# Altium integrated library Analog Devices Data Converters Analog-to-Digital Converters.IntLib: 2400 symbols (part 209 of 338)
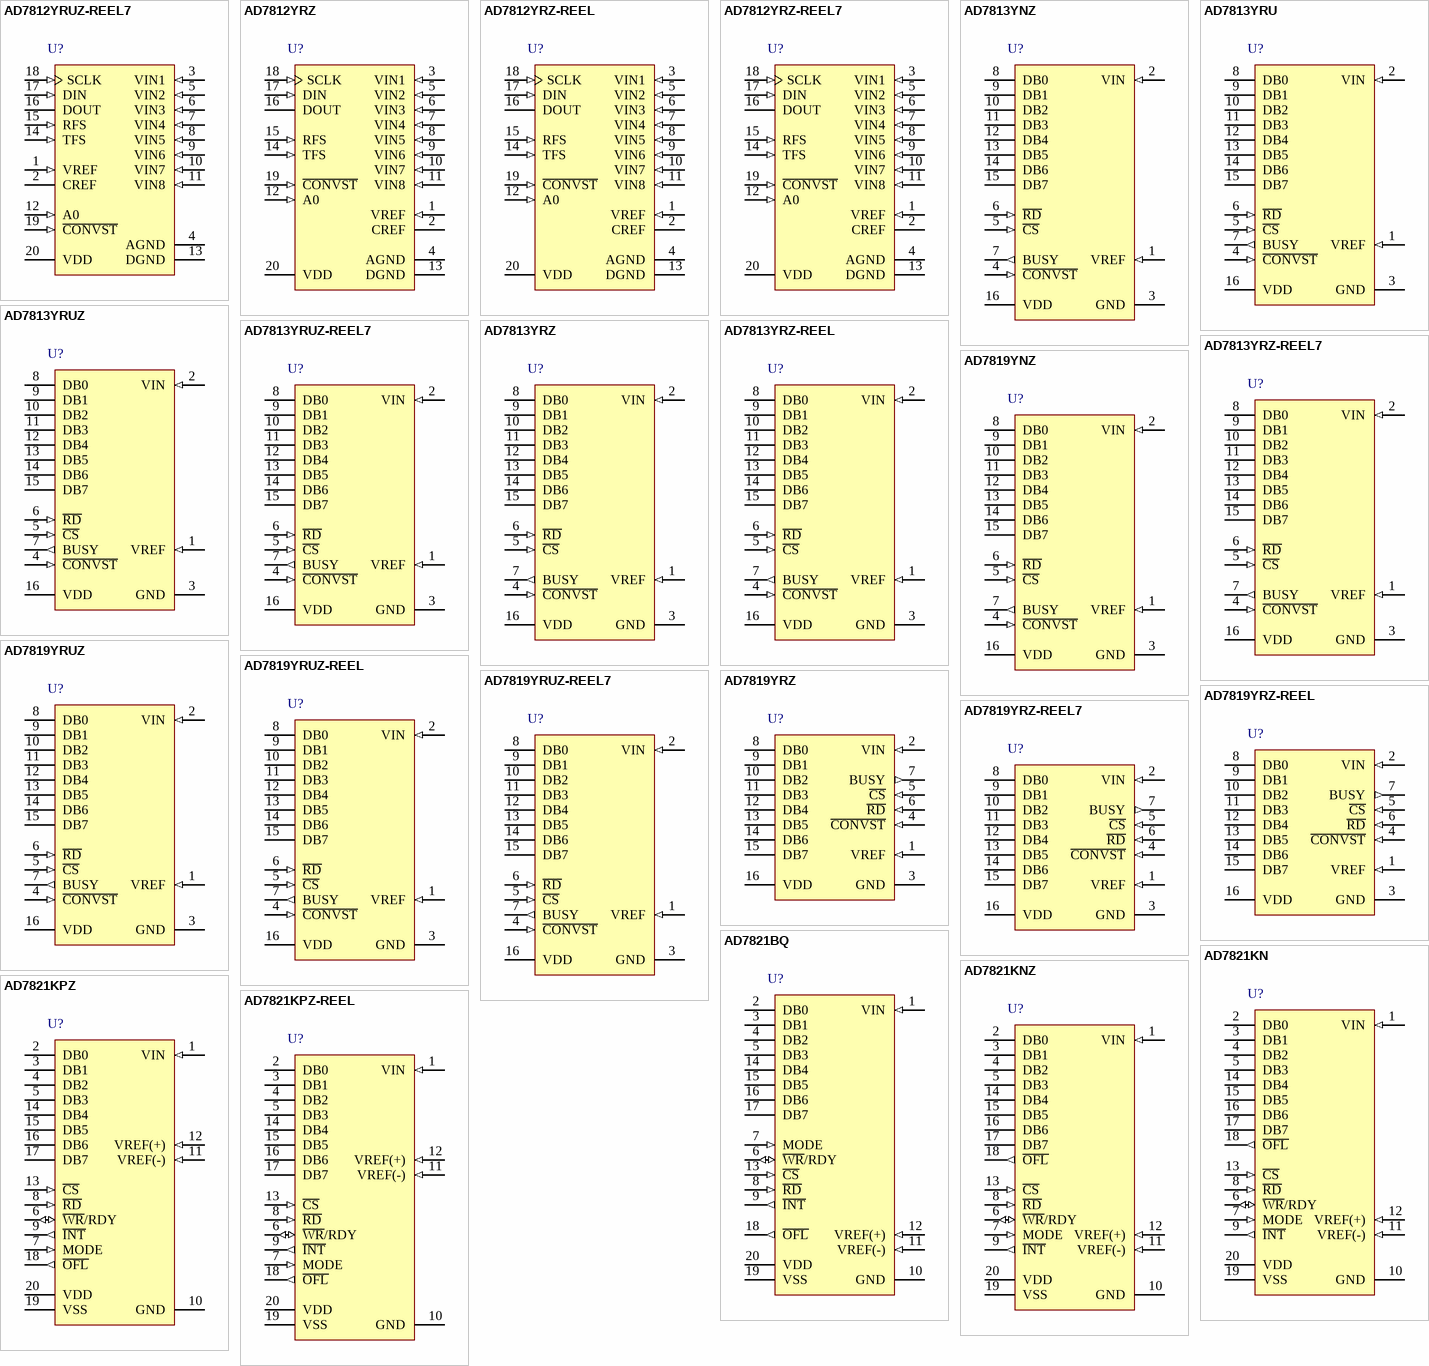
[diagram p270: symbols AD7812YRUZ-REEL7 to AD7821KPZ-REEL]

## AD7821KN
designator U?
Single 8-Bit uP Compatible Analog-to-Digital Converter with Parallel Interface and Track / Hold, LC2MOS, 1MSPS, 0 to +70 degC, N-20, Tube; Part Number: AD7821; Manufacturer: Analog Devices; Resolution (Bits): 8; Channels: 1; Throughput Rate (SPS): 1M; Interface: Par; DatasheetVersion: Rev.B; PackageVersion: 070706-A; PackageReference: N-20; PackageDescription: 20-Lead Plastic Dual In-Line Package [PDIP] Narrow Body; RoHS: N; Packing: Tube; Mounting Technology: Through-hole; Code_JEDEC: MS-001; ComponentLink1Description: Manufacturer URL; ComponentLink1URL: http://www.analog.com/en/index.html; ComponentLink2Description: Datasheet; ComponentLink2URL: http://www.analog.com/static/imported-files/data_sheets/AD7821.pdf; ComponentLink3Description: Package Specification; ComponentLink3URL: http://www.analog.com/static/imported-files/packages/50601349676519N_20.pdf; ComponentLink4Description: Product URL; ComponentLink4URL: http://www.analog.com/en/analog-to-digital-converters/ad-converters/ad7821/products/product.html
footprint N-20 (DIP, 20-Leads, Row Spacing 7.62mm, Pitch 2.54mm, Body 25.9x6.6mm)
pins: 1 VIN (in) "Analog Input: Range VREF(-) =< VIN =< VREF(+)", 2 DB0 (hiz) "Three-State Data Output (LSB)", 3 DB1 (hiz) "Three-State Data Outputs", 4 DB2 (hiz) "Three-State Data Outputs", 5 DB3 (hiz) "Three-State Data Outputs", 6 ~{WR}/RDY (io) "WRITE control input/READY status output. See Digital Interface section.", 7 MODE (in) "Mode Selection Input. It determines whether the device operates in the WR-RD or RD mode. This input is internally pulled low through a 50 μA current source. See Digital Interface section.", 8 ~{RD} (in) "READ Input. R\D\ must be low to access data from the part. See Digital Interface section.", 9 ~{INT} (out) "INTERRUPT Output. I\N\T\ going low indicates that the conversion is complete. I\N\T\ returns high on the rising edge of C\S\ or R\D\. See Digital Interface section.", 10 GND (power) "Ground", 11 VREF(-) (in) "Lower limit of reference span. Range: VSS =< VREF(-) =< VREF(+).", 12 VREF(+) (in) "Upper limit of reference span. Range: VREF(-) < VREF(+) =< VDD.", 13 ~{CS} (in) "Chip Select Input. The device is selected when this input is low.", 14 DB4 (hiz) "Three-State Data Outputs", 15 DB5 (hiz) "Three-State Data Outputs", 16 DB6 (hiz) "Three-State Data Outputs", 17 DB7 (hiz) "Three-State Data Output (MSB)", 18 ~{OFL} (out) "Overflow Output. If the analog input is higher than (VREF(+) - 1/2 LSB), O\F\L\ will be low at the end of conversion. It is a non-three-state output which can be used to cascade two or more devices to increase resolution.", 19 VSS (power) "Negative Supply Voltage VSS = 0 V; Unipolar Operation VSS = -5 V; Bipolar Operation", 20 VDD (power) "Positive Supply Voltage, +5 V"

## AD7821KNZ
designator U?
Single 8-Bit uP Compatible Analog-to-Digital Converter with Parallel Interface and Track / Hold, LC2MOS, 1MSPS, 0 to +70 degC, N-20, Pb-Free, Tube; Part Number: AD7821; Manufacturer: Analog Devices; Resolution (Bits): 8; Channels: 1; Throughput Rate (SPS): 1M; Interface: Par; DatasheetVersion: Rev.B; PackageVersion: 070706-A; PackageReference: N-20; PackageDescription: 20-Lead Plastic Dual In-Line Package [PDIP] Narrow Body; RoHS: Y; Packing: Tube; Mounting Technology: Through-hole; Code_JEDEC: MS-001; ComponentLink1Description: Manufacturer URL; ComponentLink1URL: http://www.analog.com/en/index.html; ComponentLink2Description: Datasheet; ComponentLink2URL: http://www.analog.com/static/imported-files/data_sheets/AD7821.pdf; ComponentLink3Description: Package Specification; ComponentLink3URL: http://www.analog.com/static/imported-files/packages/50601349676519N_20.pdf; ComponentLink4Description: Product URL; ComponentLink4URL: http://www.analog.com/en/analog-to-digital-converters/ad-converters/ad7821/products/product.html
footprint N-20 (DIP, 20-Leads, Row Spacing 7.62mm, Pitch 2.54mm, Body 25.9x6.6mm)
pins: 1 VIN (in) "Analog Input: Range VREF(-) =< VIN =< VREF(+)", 2 DB0 (hiz) "Three-State Data Output (LSB)", 3 DB1 (hiz) "Three-State Data Outputs", 4 DB2 (hiz) "Three-State Data Outputs", 5 DB3 (hiz) "Three-State Data Outputs", 6 ~{WR}/RDY (io) "WRITE control input/READY status output. See Digital Interface section.", 7 MODE (in) "Mode Selection Input. It determines whether the device operates in the WR-RD or RD mode. This input is internally pulled low through a 50 μA current source. See Digital Interface section.", 8 ~{RD} (in) "READ Input. R\D\ must be low to access data from the part. See Digital Interface section.", 9 ~{INT} (out) "INTERRUPT Output. I\N\T\ going low indicates that the conversion is complete. I\N\T\ returns high on the rising edge of C\S\ or R\D\. See Digital Interface section.", 10 GND (power) "Ground", 11 VREF(-) (in) "Lower limit of reference span. Range: VSS =< VREF(-) =< VREF(+).", 12 VREF(+) (in) "Upper limit of reference span. Range: VREF(-) < VREF(+) =< VDD.", 13 ~{CS} (in) "Chip Select Input. The device is selected when this input is low.", 14 DB4 (hiz) "Three-State Data Outputs", 15 DB5 (hiz) "Three-State Data Outputs", 16 DB6 (hiz) "Three-State Data Outputs", 17 DB7 (hiz) "Three-State Data Output (MSB)", 18 ~{OFL} (out) "Overflow Output. If the analog input is higher than (VREF(+) - 1/2 LSB), O\F\L\ will be low at the end of conversion. It is a non-three-state output which can be used to cascade two or more devices to increase resolution.", 19 VSS (power) "Negative Supply Voltage VSS = 0 V; Unipolar Operation VSS = -5 V; Bipolar Operation", 20 VDD (power) "Positive Supply Voltage, +5 V"

## AD7821KPZ
designator U?
Single 8-Bit uP Compatible Analog-to-Digital Converter with Parallel Interface and Track / Hold, LC2MOS, 1MSPS, 0 to +70 degC, P-20A, Pb-Free, Tube; Part Number: AD7821; Manufacturer: Analog Devices; Resolution (Bits): 8; Channels: 1; Throughput Rate (SPS): 1M; Interface: Par; DatasheetVersion: Rev.B; PackageVersion: Nov-2002; PackageReference: P-20A; PackageDescription: 20-Lead Plastic Leaded Chip Carrier [PLCC]; RoHS: Y; Packing: Tube; Mounting Technology: Surface Mount; Code_JEDEC: MO-047-AA; ComponentLink1Description: Manufacturer URL; ComponentLink1URL: http://www.analog.com/en/index.html; ComponentLink2Description: Datasheet; ComponentLink2URL: http://www.analog.com/static/imported-files/data_sheets/AD7821.pdf; ComponentLink3Description: Package Specification; ComponentLink3URL: http://www.analog.com/static/imported-files/packages/3121431516544404277643669223804694P20A.pdf; ComponentLink4Description: Product URL; ComponentLink4URL: http://www.analog.com/en/analog-to-digital-converters/ad-converters/ad7821/products/product.html
footprint P-20A_N (Leaded Chip Carrier, 20-Leads, Body 9x9mm, Pitch 1.27mm, IPC Medium Density)
footprint P-20A_L (Leaded Chip Carrier, 20-Leads, Body 9x9mm, Pitch 1.27mm, IPC High Density)
footprint P-20A_M (Leaded Chip Carrier, 20-Leads, Body 9x9mm, Pitch 1.27mm, IPC Low Density)
pins: 1 VIN (in) "Analog Input: Range VREF(-) =< VIN =< VREF(+)", 2 DB0 (hiz) "Three-State Data Output (LSB)", 3 DB1 (hiz) "Three-State Data Outputs", 4 DB2 (hiz) "Three-State Data Outputs", 5 DB3 (hiz) "Three-State Data Outputs", 6 ~{WR}/RDY (io) "WRITE control input/READY status output. See Digital Interface section.", 7 MODE (in) "Mode Selection Input. It determines whether the device operates in the WR-RD or RD mode. This input is internally pulled low through a 50 uA current source. See Digital Interface section.", 8 ~{RD} (in) "READ Input. R\D\ must be low to access data from the part. See Digital Interface section.", 9 ~{INT} (out) "INTERRUPT Output. I\N\T\ going low indicates that the conversion is complete. I\N\T\ returns high on the rising edge of C\S\ or R\D\. See Digital Interface section.", 10 GND (power) "Ground", 11 VREF(-) (in) "Lower limit of reference span. Range: VSS =< VREF(-) =< VREF(+).", 12 VREF(+) (in) "Upper limit of reference span. Range: VREF(-) < VREF(+) =< VDD.", 13 ~{CS} (in) "Chip Select Input. The device is selected when this input is low.", 14 DB4 (hiz) "Three-State Data Outputs", 15 DB5 (hiz) "Three-State Data Outputs", 16 DB6 (hiz) "Three-State Data Outputs", 17 DB7 (hiz) "Three-State Data Output (MSB)", 18 ~{OFL} (out) "Overflow Output. If the analog input is higher than (VREF(+) - 1/2 LSB), O\F\L\ will be low at the end of conversion. It is a non-three-state output which can be used to cascade two or more devices to increase resolution.", 19 VSS (power) "Negative Supply Voltage VSS = 0 V; Unipolar Operation VSS = -5 V; Bipolar Operation", 20 VDD (power) "Positive Supply Voltage, +5 V"

## AD7821KPZ-REEL
designator U?
Single 8-Bit uP Compatible Analog-to-Digital Converter with Parallel Interface and Track / Hold, LC2MOS, 1MSPS, 0 to +70 degC, P-20A, Pb-Free, Reel; Part Number: AD7821; Manufacturer: Analog Devices; Resolution (Bits): 8; Channels: 1; Throughput Rate (SPS): 1M; Interface: Par; DatasheetVersion: Rev.B; PackageVersion: Nov-2002; PackageReference: P-20A; PackageDescription: 20-Lead Plastic Leaded Chip Carrier [PLCC]; RoHS: Y; Packing: Reel; Mounting Technology: Surface Mount; Code_JEDEC: MO-047-AA; ComponentLink1Description: Manufacturer URL; ComponentLink1URL: http://www.analog.com/en/index.html; ComponentLink2Description: Datasheet; ComponentLink2URL: http://www.analog.com/static/imported-files/data_sheets/AD7821.pdf; ComponentLink3Description: Package Specification; ComponentLink3URL: http://www.analog.com/static/imported-files/packages/3121431516544404277643669223804694P20A.pdf; ComponentLink4Description: Product URL; ComponentLink4URL: http://www.analog.com/en/analog-to-digital-converters/ad-converters/ad7821/products/product.html
footprint P-20A_N (Leaded Chip Carrier, 20-Leads, Body 9x9mm, Pitch 1.27mm, IPC Medium Density)
footprint P-20A_L (Leaded Chip Carrier, 20-Leads, Body 9x9mm, Pitch 1.27mm, IPC High Density)
footprint P-20A_M (Leaded Chip Carrier, 20-Leads, Body 9x9mm, Pitch 1.27mm, IPC Low Density)
pins: 1 VIN (in) "Analog Input: Range VREF(-) =< VIN =< VREF(+)", 2 DB0 (hiz) "Three-State Data Output (LSB)", 3 DB1 (hiz) "Three-State Data Outputs", 4 DB2 (hiz) "Three-State Data Outputs", 5 DB3 (hiz) "Three-State Data Outputs", 6 ~{WR}/RDY (io) "WRITE control input/READY status output. See Digital Interface section.", 7 MODE (in) "Mode Selection Input. It determines whether the device operates in the WR-RD or RD mode. This input is internally pulled low through a 50 uA current source. See Digital Interface section.", 8 ~{RD} (in) "READ Input. R\D\ must be low to access data from the part. See Digital Interface section.", 9 ~{INT} (out) "INTERRUPT Output. I\N\T\ going low indicates that the conversion is complete. I\N\T\ returns high on the rising edge of C\S\ or R\D\. See Digital Interface section.", 10 GND (power) "Ground", 11 VREF(-) (in) "Lower limit of reference span. Range: VSS =< VREF(-) =< VREF(+).", 12 VREF(+) (in) "Upper limit of reference span. Range: VREF(-) < VREF(+) =< VDD.", 13 ~{CS} (in) "Chip Select Input. The device is selected when this input is low.", 14 DB4 (hiz) "Three-State Data Outputs", 15 DB5 (hiz) "Three-State Data Outputs", 16 DB6 (hiz) "Three-State Data Outputs", 17 DB7 (hiz) "Three-State Data Output (MSB)", 18 ~{OFL} (out) "Overflow Output. If the analog input is higher than (VREF(+) - 1/2 LSB), O\F\L\ will be low at the end of conversion. It is a non-three-state output which can be used to cascade two or more devices to increase resolution.", 19 VSS (power) "Negative Supply Voltage VSS = 0 V; Unipolar Operation VSS = -5 V; Bipolar Operation", 20 VDD (power) "Positive Supply Voltage, +5 V"

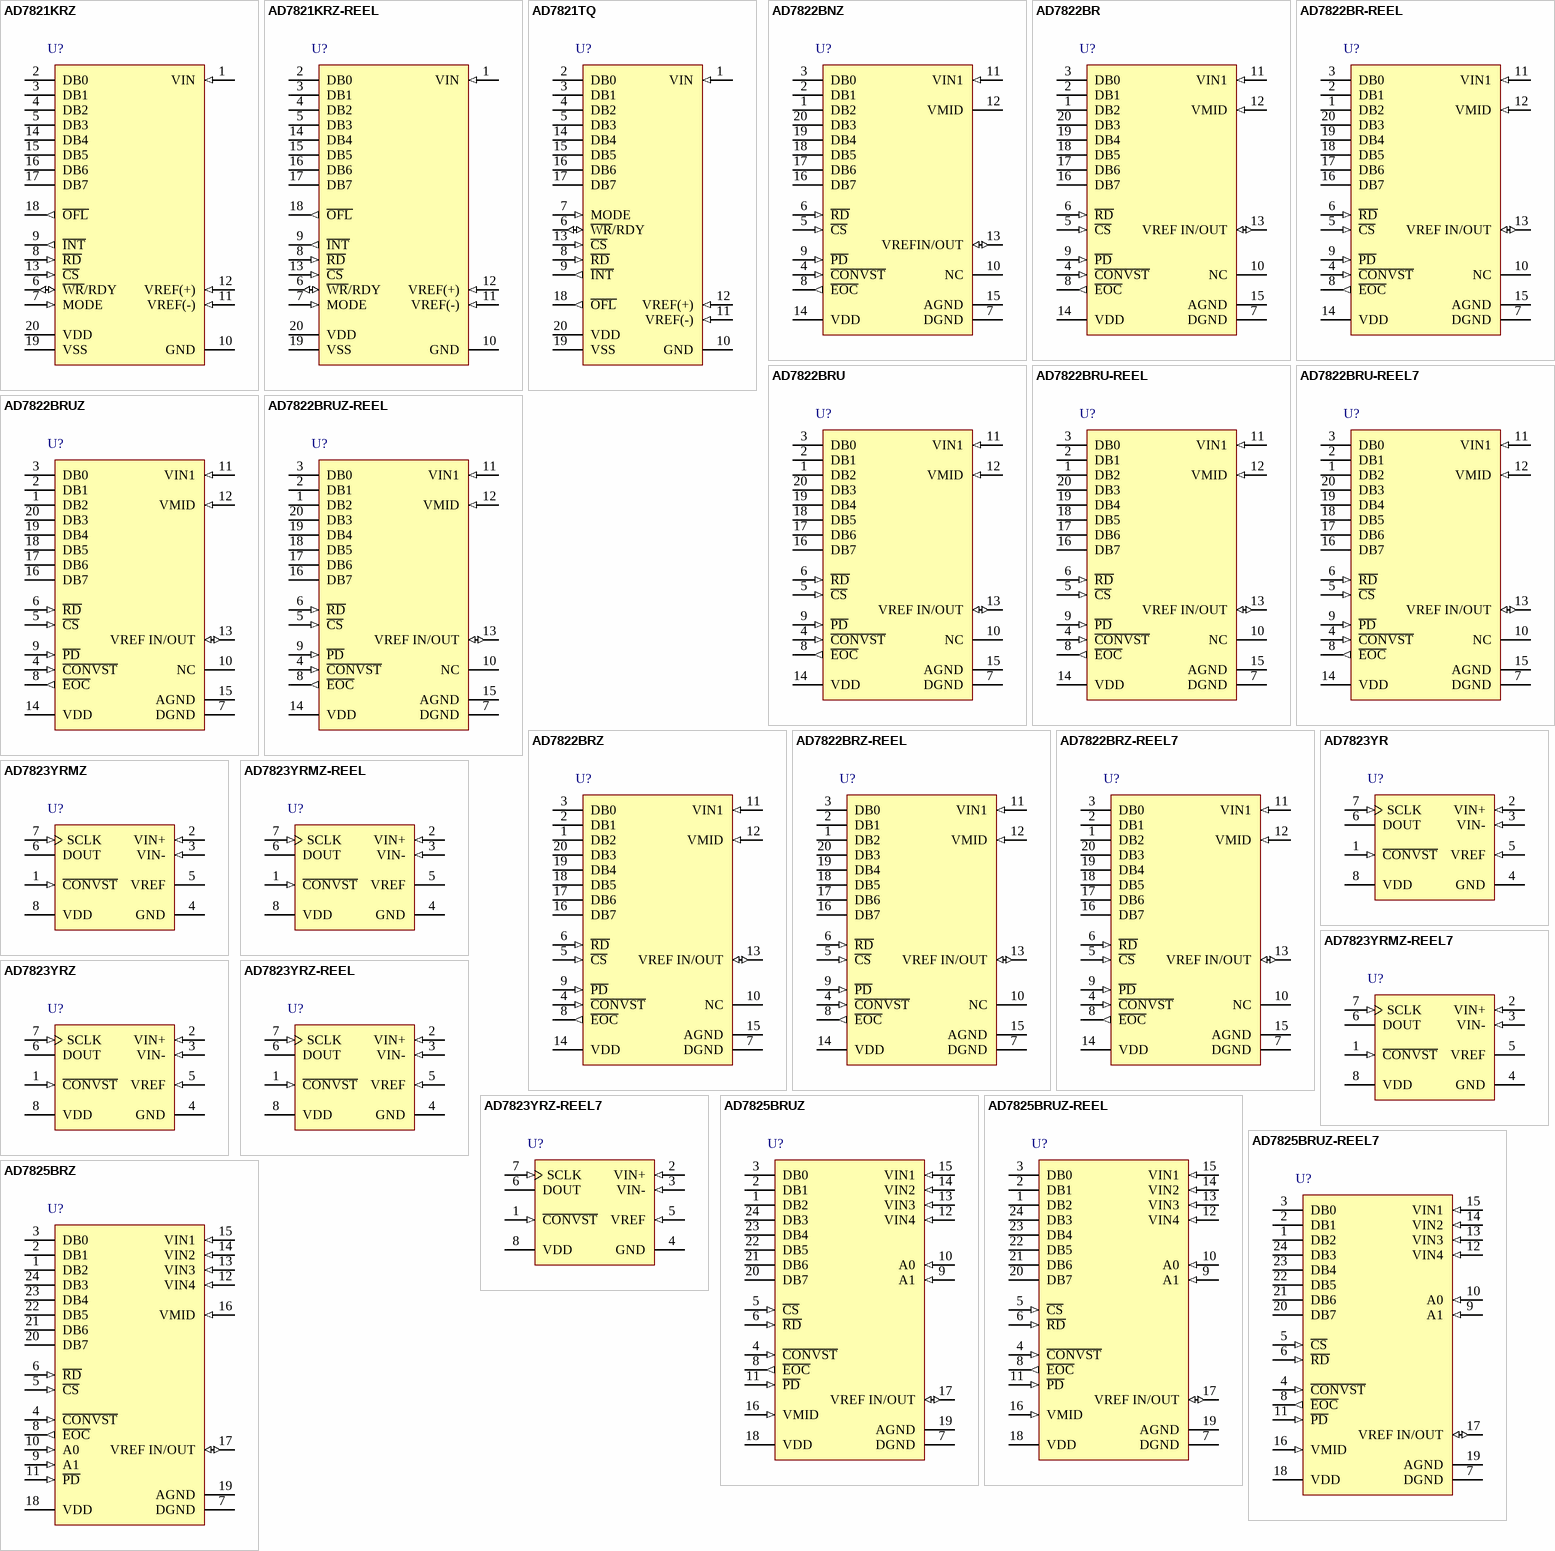
[diagram p65: symbols AD7821KRZ to AD7825BRZ]

## AD7821KRZ
designator U?
Single 8-Bit uP Compatible Analog-to-Digital Converter with Parallel Interface and Track / Hold, LC2MOS, 1MSPS, 0 to +70 degC, RW-20, Pb-Free, Tube; Part Number: AD7821; Manufacturer: Analog Devices; Resolution (Bits): 8; Channels: 1; Throughput Rate (SPS): 1M; Interface: Par; DatasheetVersion: Rev.B; PackageVersion: 060706-A; PackageReference: RW-20; PackageDescription: 20-Lead Standard Small Outline Package [SOIC_W] Wide Body; RoHS: Y; Packing: Tube; Mounting Technology: Surface Mount; Code_JEDEC: MS-013-AC; ComponentLink1Description: Manufacturer URL; ComponentLink1URL: http://www.analog.com/en/index.html; ComponentLink2Description: Datasheet; ComponentLink2URL: http://www.analog.com/static/imported-files/data_sheets/AD7821.pdf; ComponentLink3Description: Package Specification; ComponentLink3URL: http://www.analog.com/static/imported-files/packages/233848RW_20.pdf; ComponentLink4Description: Product URL; ComponentLink4URL: http://www.analog.com/en/analog-to-digital-converters/ad-converters/ad7821/products/product.html
footprint RW-20_N (SOIC, 20-Leads, Body 12.8x7.5mm, Pitch 1.27mm, IPC Medium Density)
footprint RW-20_L (SOIC, 20-Leads, Body 12.8x7.5mm, Pitch 1.27mm, IPC High Density)
footprint RW-20_M (SOIC, 20-Leads, Body 12.8x7.5mm, Pitch 1.27mm, IPC Low Density)
pins: 1 VIN (in) "Analog Input: Range VREF(-) =< VIN =< VREF(+)", 2 DB0 (hiz) "Three-State Data Output (LSB)", 3 DB1 (hiz) "Three-State Data Outputs", 4 DB2 (hiz) "Three-State Data Outputs", 5 DB3 (hiz) "Three-State Data Outputs", 6 ~{WR}/RDY (io) "WRITE control input/READY status output. See Digital Interface section.", 7 MODE (in) "Mode Selection Input. It determines whether the device operates in the WR-RD or RD mode. This input is internally pulled low through a 50 uA current source. See Digital Interface section.", 8 ~{RD} (in) "READ Input. R\D\ must be low to access data from the part. See Digital Interface section.", 9 ~{INT} (out) "INTERRUPT Output. I\N\T\ going low indicates that the conversion is complete. I\N\T\ returns high on the rising edge of C\S\ or R\D\. See Digital Interface section.", 10 GND (power) "Ground", 11 VREF(-) (in) "Lower limit of reference span. Range: VSS =< VREF(-) =< VREF(+).", 12 VREF(+) (in) "Upper limit of reference span. Range: VREF(-) < VREF(+) =< VDD.", 13 ~{CS} (in) "Chip Select Input. The device is selected when this input is low.", 14 DB4 (hiz) "Three-State Data Outputs", 15 DB5 (hiz) "Three-State Data Outputs", 16 DB6 (hiz) "Three-State Data Outputs", 17 DB7 (hiz) "Three-State Data Output (MSB)", 18 ~{OFL} (out) "Overflow Output. If the analog input is higher than (VREF(+) - 1/2 LSB), O\F\L\ will be low at the end of conversion. It is a non-three-state output which can be used to cascade two or more devices to increase resolution.", 19 VSS (power) "Negative Supply Voltage VSS = 0 V; Unipolar Operation VSS = -5 V; Bipolar Operation", 20 VDD (power) "Positive Supply Voltage, +5 V"

## AD7821KRZ-REEL
designator U?
Single 8-Bit uP Compatible Analog-to-Digital Converter with Parallel Interface and Track / Hold, LC2MOS, 1MSPS, 0 to +70 degC, RW-20, Pb-Free, Reel; Part Number: AD7821; Manufacturer: Analog Devices; Resolution (Bits): 8; Channels: 1; Throughput Rate (SPS): 1M; Interface: Par; DatasheetVersion: Rev.B; PackageVersion: 060706-A; PackageReference: RW-20; PackageDescription: 20-Lead Standard Small Outline Package [SOIC_W] Wide Body; RoHS: Y; Packing: Reel; Mounting Technology: Surface Mount; Code_JEDEC: MS-013-AC; ComponentLink1Description: Manufacturer URL; ComponentLink1URL: http://www.analog.com/en/index.html; ComponentLink2Description: Datasheet; ComponentLink2URL: http://www.analog.com/static/imported-files/data_sheets/AD7821.pdf; ComponentLink3Description: Package Specification; ComponentLink3URL: http://www.analog.com/static/imported-files/packages/233848RW_20.pdf; ComponentLink4Description: Product URL; ComponentLink4URL: http://www.analog.com/en/analog-to-digital-converters/ad-converters/ad7821/products/product.html
footprint RW-20_N (SOIC, 20-Leads, Body 12.8x7.5mm, Pitch 1.27mm, IPC Medium Density)
footprint RW-20_L (SOIC, 20-Leads, Body 12.8x7.5mm, Pitch 1.27mm, IPC High Density)
footprint RW-20_M (SOIC, 20-Leads, Body 12.8x7.5mm, Pitch 1.27mm, IPC Low Density)
pins: 1 VIN (in) "Analog Input: Range VREF(-) =< VIN =< VREF(+)", 2 DB0 (hiz) "Three-State Data Output (LSB)", 3 DB1 (hiz) "Three-State Data Outputs", 4 DB2 (hiz) "Three-State Data Outputs", 5 DB3 (hiz) "Three-State Data Outputs", 6 ~{WR}/RDY (io) "WRITE control input/READY status output. See Digital Interface section.", 7 MODE (in) "Mode Selection Input. It determines whether the device operates in the WR-RD or RD mode. This input is internally pulled low through a 50 uA current source. See Digital Interface section.", 8 ~{RD} (in) "READ Input. R\D\ must be low to access data from the part. See Digital Interface section.", 9 ~{INT} (out) "INTERRUPT Output. I\N\T\ going low indicates that the conversion is complete. I\N\T\ returns high on the rising edge of C\S\ or R\D\. See Digital Interface section.", 10 GND (power) "Ground", 11 VREF(-) (in) "Lower limit of reference span. Range: VSS =< VREF(-) =< VREF(+).", 12 VREF(+) (in) "Upper limit of reference span. Range: VREF(-) < VREF(+) =< VDD.", 13 ~{CS} (in) "Chip Select Input. The device is selected when this input is low.", 14 DB4 (hiz) "Three-State Data Outputs", 15 DB5 (hiz) "Three-State Data Outputs", 16 DB6 (hiz) "Three-State Data Outputs", 17 DB7 (hiz) "Three-State Data Output (MSB)", 18 ~{OFL} (out) "Overflow Output. If the analog input is higher than (VREF(+) - 1/2 LSB), O\F\L\ will be low at the end of conversion. It is a non-three-state output which can be used to cascade two or more devices to increase resolution.", 19 VSS (power) "Negative Supply Voltage VSS = 0 V; Unipolar Operation VSS = -5 V; Bipolar Operation", 20 VDD (power) "Positive Supply Voltage, +5 V"

## AD7821TQ
designator U?
Single 8-Bit uP Compatible Analog-to-Digital Converter with Parallel Interface and Track / Hold, LC2MOS, 1MSPS, -55 to +125 degC, Q-20, Tube; Part Number: AD7821; Manufacturer: Analog Devices; Resolution (Bits): 8; Channels: 1; Throughput Rate (SPS): 1M; Interface: Par; DatasheetVersion: Rev.B; PackageVersion: Dec-2004; PackageReference: Q-20; PackageDescription: 20-Lead Ceramic Dual In-Line Package [CERDIP]; RoHS: N; Packing: Tube; Mounting Technology: Through-hole; ComponentLink1Description: Manufacturer URL; ComponentLink1URL: http://www.analog.com/en/index.html; ComponentLink2Description: Datasheet; ComponentLink2URL: http://www.analog.com/static/imported-files/data_sheets/AD7821.pdf; ComponentLink3Description: Package Specification; ComponentLink3URL: http://www.analog.com/static/imported-files/packages/50516416473314Q_20.pdf; ComponentLink4Description: Product URL; ComponentLink4URL: http://www.analog.com/en/analog-to-digital-converters/ad-converters/ad7821/products/product.html
footprint Q-20 (DIP, 20-Leads, Row Spacing 7.62mm, Pitch 2.54mm, Body 25.9x6.7mm)
pins: 1 VIN (in) "Analog Input: Range VREF(-) =< VIN =< VREF(+)", 2 DB0 (hiz) "Three-State Data Output (LSB)", 3 DB1 (hiz) "Three-State Data Outputs", 4 DB2 (hiz) "Three-State Data Outputs", 5 DB3 (hiz) "Three-State Data Outputs", 6 ~{WR}/RDY (io) "WRITE control input/READY status output. See Digital Interface section.", 7 MODE (in) "Mode Selection Input. It determines whether the device operates in the WR-RD or RD mode. This input is internally pulled low through a 50 uA current source. See Digital Interface section.", 8 ~{RD} (in) "READ Input. R\D\ must be low to access data from the part. See Digital Interface section.", 9 ~{INT} (out) "INTERRUPT Output. I\N\T\ going low indicates that the conversion is complete. I\N\T\ returns high on the rising edge of C\S\ or R\D\. See Digital Interface section.", 10 GND (power) "Ground", 11 VREF(-) (in) "Lower limit of reference span. Range: VSS =< VREF(-) =< VREF(+).", 12 VREF(+) (in) "Upper limit of reference span. Range: VREF(-) < VREF(+) =< VDD.", 13 ~{CS} (in) "Chip Select Input. The device is selected when this input is low.", 14 DB4 (hiz) "Three-State Data Outputs", 15 DB5 (hiz) "Three-State Data Outputs", 16 DB6 (hiz) "Three-State Data Outputs", 17 DB7 (hiz) "Three-State Data Output (MSB)", 18 ~{OFL} (out) "Overflow Output. If the analog input is higher than (VREF(+) - 1/2 LSB), O\F\L\ will be low at the end of conversion. It is a non-three-state output which can be used to cascade two or more devices to increase resolution.", 19 VSS (power) "Negative Supply Voltage VSS = 0 V; Unipolar Operation VSS = -5 V; Bipolar Operation", 20 VDD (power) "Positive Supply Voltage, +5 V"

## AD7822BNZ
designator U?
Single 8-Bit Sampling Analog-to-Digital Converter with Parallel Interface, 3 V / 5 V, 2MSPS, -40 to +85 degC, N-20, Pb-Free, Tube; Part Number: AD7822; Manufacturer: Analog Devices; Resolution (Bits): 8; Channels: 1; Throughput Rate (SPS): 2M; Interface: Par; DatasheetVersion: Rev.C; PackageVersion: 070706-A; PackageReference: N-20; PackageDescription: 20-Lead Plastic Dual In-Line Package [PDIP] Narrow Body; RoHS: Y; Packing: Tube; Mounting Technology: Through-hole; Code_JEDEC: MS-001; ComponentLink1Description: Manufacturer URL; ComponentLink1URL: http://www.analog.com/en/index.html; ComponentLink2Description: Datasheet; ComponentLink2URL: http://www.analog.com/static/imported-files/data_sheets/AD7822_7825_7829.pdf; ComponentLink3Description: Package Specification; ComponentLink3URL: http://www.analog.com/static/imported-files/packages/50601349676519N_20.pdf; ComponentLink4Description: Product URL; ComponentLink4URL: http://www.analog.com/en/analog-to-digital-converters/ad-converters/ad7822/products/product.html
footprint N-20 (DIP, 20-Leads, Row Spacing 7.62mm, Pitch 2.54mm, Body 25.9x6.6mm)
pins: 1 DB2 (hiz) "Data Output Lines. They are normally held in a high impedance state. Data is driven onto the data bus when both R\D\ and C\S\ go active low.", 2 DB1 (hiz) "Data Output Lines. They are normally held in a high impedance state. Data is driven onto the data bus when both R\D\ and C\S\ go active low.", 3 DB0 (hiz) "Data Output Lines. They are normally held in a high impedance state. Data is driven onto the data bus when both R\D\ and C\S\ go active low.", 4 ~{CONVST} (in) "Logic Input Signal. The convert start signal initiates an 8-bit analog-to-digital conversion on the falling edge of this signal. The falling edge of this signal places the track-and-hold in hold mode. The track-and-hold goes (See Datasheet)", 5 ~{CS} (in) "Logic Input Signal. The chip select signal is used to enable the parallel port of the AD7822/AD7825/AD7829. This is necessary if the ADC is sharing a common data bus with another device.", 6 ~{RD} (in) "Logic Input Signal. The read signal is used to take the output buffers out of their high impedance state and drive data onto the data bus. The signal is internally gated with the C\S\ signal. Both R\D\ and C\S\ must be logic (See Datasheet)", 7 DGND (power) "Digital Ground. Ground reference for digital circuitry.", 8 ~{EOC} (out) "Logic Output. The end-of-conversion signal indicates when a conversion has finished. The signal can be used to interrupt a microcontroller when a conversion has finished or latch data into a gate array (see the Parallel (See Datasheet)", 9 ~{PD} (in) "Logic Input. The power-down pin is present on the AD7822 and AD7825 only. Bringing the P\D\ pin low places the AD7822 and AD7825 in power-down mode. The ADCs power up when P\D\ is brought logic high again.", 10 NC "No connected.", 11 VIN1 (in) "Analog Input Channels. The AD7822 has a single input channel; the AD7825 and AD7829 have four and eight analog input channels, respectively. The inputs have an input span of 2.5 V and 2 V depending on the supply voltage (See Datasheet)", 12 VMID "The VMID pin, if connected, is used to center the analog input span anywhere in the range of AGND to VDD (see the Analog Input section).", 13 VREFIN/OUT (io) "Analog Input and Output. An external reference can be connected to the AD7822/AD7825/AD7829 at this pin. The on-chip reference is also available at this pin. When using the internal reference, this pin can be left (See Datasheet)", 14 VDD (power) "Positive Supply Voltage, 3 V +/- 10% and 5 V +/- 10%.", 15 AGND (power) "Analog Ground. Ground reference for track-and-hold, comparators, reference circuit, and multiplexer.", 16 DB7 (hiz) "Data Output Lines. They are normally held in a high impedance state. Data is driven onto the data bus when both R\D\ and C\S\ go active low.", 17 DB6 (hiz) "Data Output Lines. They are normally held in a high impedance state. Data is driven onto the data bus when both R\D\ and C\S\ go active low.", 18 DB5 (hiz) "Data Output Lines. They are normally held in a high impedance state. Data is driven onto the data bus when both R\D\ and C\S\ go active low.", 19 DB4 (hiz) "Data Output Lines. They are normally held in a high impedance state. Data is driven onto the data bus when both R\D\ and C\S\ go active low.", 20 DB3 (hiz) "Data Output Lines. They are normally held in a high impedance state. Data is driven onto the data bus when both R\D\ and C\S\ go active low."

## AD7822BR
designator U?
Single 8-Bit Sampling Analog-to-Digital Converter with Parallel Interface, 3 V / 5 V, 2MSPS, -40 to +85 degC, RW-20, Tube; Part Number: AD7822; Manufacturer: Analog Devices; Resolution (Bits): 8; Channels: 1; Throughput Rate (SPS): 2M; Interface: Par; DatasheetVersion: Rev.C; PackageVersion: 060706-A; PackageReference: RW-20; PackageDescription: 20-Lead Standard Small Outline Package [SOIC_W] Wide Body; RoHS: N; Packing: Tube; Mounting Technology: Surface Mount; Code_JEDEC: MS-013-AC; ComponentLink1Description: Manufacturer URL; ComponentLink1URL: http://www.analog.com/en/index.html; ComponentLink2Description: Datasheet; ComponentLink2URL: http://www.analog.com/static/imported-files/data_sheets/AD7822_7825_7829.pdf; ComponentLink3Description: Package Specification; ComponentLink3URL: http://www.analog.com/static/imported-files/packages/233848RW_20.pdf; ComponentLink4Description: Product URL; ComponentLink4URL: http://www.analog.com/en/analog-to-digital-converters/ad-converters/ad7822/products/product.html
footprint RW-20_N (SOIC, 20-Leads, Body 12.8x7.5mm, Pitch 1.27mm, IPC Medium Density)
footprint RW-20_L (SOIC, 20-Leads, Body 12.8x7.5mm, Pitch 1.27mm, IPC High Density)
footprint RW-20_M (SOIC, 20-Leads, Body 12.8x7.5mm, Pitch 1.27mm, IPC Low Density)
pins: 1 DB2 (hiz) "Data Output Lines. They are normally held in a high impedance state. Data is driven onto the data bus when both R\D\ and C\S\.", 2 DB1 (hiz) "Data Output Lines. They are normally held in a high impedance state. Data is driven onto the data bus when both R\D\ and C\S\.", 3 DB0 (hiz) "Data Output Lines. They are normally held in a high impedance state. Data is driven onto the data bus when both R\D\ and C\S\.", 4 ~{CONVST} (in) "Logic Input Signal. The convert start signal initiates an 8-bit analog-to-digital conversion on the falling edge of this signal. The falling edge of this signal places the track-and-hold in hold mode. The track-and-hold goes (See Datasheet)", 5 ~{CS} (in) "Logic Input Signal. The chip select signal is used to enable the parallel port of the AD7822/AD7825/AD7829. This is necessary if the ADC is sharing a common data bus with another device.", 6 ~{RD} (in) "Logic Input Signal. The read signal is used to take the output buffers out of their high impedance state and drive data onto the data bus. The signal is internally gated with the C\S\  signal. Both R\D\  and C\S\  must be (See Datasheet)", 7 DGND (power) "Digital Ground. Ground reference for digital circuitry.", 8 ~{EOC} (out) "Logic Output. The end-of-conversion signal indicates when a conversion has finished. The signal can be used to interrupt a microcontroller when a conversion has finished or latch data into a gate array (see the Parallel (See Datasheet)", 9 ~{PD} (in) "Logic Input. The power-down pin is present on the AD7822 and AD7825 only. Bringing the PD pin low places the AD7822 and AD7825 in power-down mode. The ADCs power up when PD is brought logic high again.", 10 NC "no connect", 11 VIN1 (in) "Analog Input Channels. The AD7822 has a single input channel; the AD7825 and AD7829 have four and eight analog input channels, respectively. The inputs have an input span of 2.5 V and 2 V depending on the supply voltage (See Datasheet)", 12 VMID (in) "The VMID pin, if connected, is used to center the analog input span anywhere in the range of AGND to VDD (see the Analog Input section).", 13 VREF IN/OUT (io) "Analog Input and Output. An external reference can be connected to the AD7822/AD7825/AD7829 at this pin. The on-chip reference is also available at this pin. When using the internal reference, this pin can be left (See Datasheet)", 14 VDD (power) "Positive Supply Voltage, 3 V +/- 10% and 5 V +/- 10%.", 15 AGND (power) "Analog Ground. Ground reference for track-and-hold, comparators, reference circuit, and multiplexer.", 16 DB7 (hiz) "Data Output Lines. They are normally held in a high impedance state. Data is driven onto the data bus when both R\D\ and C\S\.", 17 DB6 (hiz) "Data Output Lines. They are normally held in a high impedance state. Data is driven onto the data bus when both R\D\ and C\S\.", 18 DB5 (hiz) "Data Output Lines. They are normally held in a high impedance state. Data is driven onto the data bus when both R\D\ and C\S\.", 19 DB4 (hiz) "Data Output Lines. They are normally held in a high impedance state. Data is driven onto the data bus when both R\D\ and C\S\.", 20 DB3 (hiz) "Data Output Lines. They are normally held in a high impedance state. Data is driven onto the data bus when both R\D\ and C\S\."

## AD7822BR-REEL
designator U?
Single 8-Bit Sampling Analog-to-Digital Converter with Parallel Interface, 3 V / 5 V, 2MSPS, -40 to +85 degC, RW-20, Reel; Part Number: AD7822; Manufacturer: Analog Devices; Resolution (Bits): 8; Channels: 1; Throughput Rate (SPS): 2M; Interface: Par; DatasheetVersion: Rev.C; PackageVersion: 060706-A; PackageReference: RW-20; PackageDescription: 20-Lead Standard Small Outline Package [SOIC_W] Wide Body; RoHS: N; Packing: Reel; Mounting Technology: Surface Mount; Code_JEDEC: MS-013-AC; ComponentLink1Description: Manufacturer URL; ComponentLink1URL: http://www.analog.com/en/index.html; ComponentLink2Description: Datasheet; ComponentLink2URL: http://www.analog.com/static/imported-files/data_sheets/AD7822_7825_7829.pdf; ComponentLink3Description: Package Specification; ComponentLink3URL: http://www.analog.com/static/imported-files/packages/233848RW_20.pdf; ComponentLink4Description: Product URL; ComponentLink4URL: http://www.analog.com/en/analog-to-digital-converters/ad-converters/ad7822/products/product.html
footprint RW-20_N (SOIC, 20-Leads, Body 12.8x7.5mm, Pitch 1.27mm, IPC Medium Density)
footprint RW-20_L (SOIC, 20-Leads, Body 12.8x7.5mm, Pitch 1.27mm, IPC High Density)
footprint RW-20_M (SOIC, 20-Leads, Body 12.8x7.5mm, Pitch 1.27mm, IPC Low Density)
pins: 1 DB2 (hiz) "Data Output Lines. They are normally held in a high impedance state. Data is driven onto the data bus when both R\D\ and C\S\.", 2 DB1 (hiz) "Data Output Lines. They are normally held in a high impedance state. Data is driven onto the data bus when both R\D\ and C\S\.", 3 DB0 (hiz) "Data Output Lines. They are normally held in a high impedance state. Data is driven onto the data bus when both R\D\ and C\S\.", 4 ~{CONVST} (in) "Logic Input Signal. The convert start signal initiates an 8-bit analog-to-digital conversion on the falling edge of this signal. The falling edge of this signal places the track-and-hold in hold mode. The track-and-hold goes (See Datasheet)", 5 ~{CS} (in) "Logic Input Signal. The chip select signal is used to enable the parallel port of the AD7822/AD7825/AD7829. This is necessary if the ADC is sharing a common data bus with another device.", 6 ~{RD} (in) "Logic Input Signal. The read signal is used to take the output buffers out of their high impedance state and drive data onto the data bus. The signal is internally gated with the C\S\  signal. Both R\D\  and C\S\  must be (See Datasheet)", 7 DGND (power) "Digital Ground. Ground reference for digital circuitry.", 8 ~{EOC} (out) "Logic Output. The end-of-conversion signal indicates when a conversion has finished. The signal can be used to interrupt a microcontroller when a conversion has finished or latch data into a gate array (see the Parallel (See Datasheet)", 9 ~{PD} (in) "Logic Input. The power-down pin is present on the AD7822 and AD7825 only. Bringing the PD pin low places the AD7822 and AD7825 in power-down mode. The ADCs power up when PD is brought logic high again.", 10 NC "no connect", 11 VIN1 (in) "Analog Input Channels. The AD7822 has a single input channel; the AD7825 and AD7829 have four and eight analog input channels, respectively. The inputs have an input span of 2.5 V and 2 V depending on the supply voltage (See Datasheet)", 12 VMID (in) "The VMID pin, if connected, is used to center the analog input span anywhere in the range of AGND to VDD (see the Analog Input section).", 13 VREF IN/OUT (io) "Analog Input and Output. An external reference can be connected to the AD7822/AD7825/AD7829 at this pin. The on-chip reference is also available at this pin. When using the internal reference, this pin can be left (See Datasheet)", 14 VDD (power) "Positive Supply Voltage, 3 V +/- 10% and 5 V +/- 10%.", 15 AGND (power) "Analog Ground. Ground reference for track-and-hold, comparators, reference circuit, and multiplexer.", 16 DB7 (hiz) "Data Output Lines. They are normally held in a high impedance state. Data is driven onto the data bus when both R\D\ and C\S\.", 17 DB6 (hiz) "Data Output Lines. They are normally held in a high impedance state. Data is driven onto the data bus when both R\D\ and C\S\.", 18 DB5 (hiz) "Data Output Lines. They are normally held in a high impedance state. Data is driven onto the data bus when both R\D\ and C\S\.", 19 DB4 (hiz) "Data Output Lines. They are normally held in a high impedance state. Data is driven onto the data bus when both R\D\ and C\S\.", 20 DB3 (hiz) "Data Output Lines. They are normally held in a high impedance state. Data is driven onto the data bus when both R\D\ and C\S\."

## AD7822BRU
designator U?
Single 8-Bit Sampling Analog-to-Digital Converter with Parallel Interface, 3 V / 5 V, 2MSPS, -40 to +85 degC, RU-20, Tube; Part Number: AD7822; Manufacturer: Analog Devices; Resolution (Bits): 8; Channels: 1; Throughput Rate (SPS): 2M; Interface: Par; DatasheetVersion: Rev.C; PackageVersion: 2000; PackageReference: RU-20; PackageDescription: 20-Lead Thin Shrink Small Outline Package [TSSOP]; RoHS: N; Packing: Tube; Mounting Technology: Surface Mount; Code_JEDEC: MO-153AC; ComponentLink1Description: Manufacturer URL; ComponentLink1URL: http://www.analog.com/en/index.html; ComponentLink2Description: Datasheet; ComponentLink2URL: http://www.analog.com/static/imported-files/data_sheets/AD7822_7825_7829.pdf; ComponentLink3Description: Package Specification; ComponentLink3URL: http://www.analog.com/static/imported-files/packages/364515793657813558433715854054607941441RU20.pdf; ComponentLink4Description: Product URL; ComponentLink4URL: http://www.analog.com/en/analog-to-digital-converters/ad-converters/ad7822/products/product.html
footprint RU-20_N (TSOP, 20-Leads, Body 6.5x4.4mm, Pitch 0.65mm, IPC Medium Density)
footprint RU-20_L (TSOP, 20-Leads, Body 6.5x4.4mm, Pitch 0.65mm, IPC High Density)
footprint RU-20_M (TSOP, 20-Leads, Body 6.5x4.4mm, Pitch 0.65mm, IPC Low Density)
pins: 1 DB2 (hiz) "Data Output Lines. They are normally held in a high impedance state. Data is driven onto the data bus when both R\D\ and C\S\ go active low.", 2 DB1 (hiz) "Data Output Lines. They are normally held in a high impedance state. Data is driven onto the data bus when both R\D\ and C\S\ go active low.", 3 DB0 (hiz) "Data Output Lines. They are normally held in a high impedance state. Data is driven onto the data bus when both R\D\ and C\S\ go active low.", 4 ~{CONVST} (in) "Logic Input Signal. The convert start signal initiates an 8-bit analog-to-digital conversion on the falling edge of this signal. The falling edge of this signal places the track-and-hold in hold mode. The track-and-hold goes (See Datasheet)", 5 ~{CS} (in) "Logic Input Signal. The chip select signal is used to enable the parallel port of the AD7822/AD7825/AD7829. This is necessary if the ADC is sharing a common data bus with another device.", 6 ~{RD} (in) "Logic Input Signal. The read signal is used to take the output buffers out of their high impedance state and drive data onto the data bus. The signal is internally gated with the C\S\ signal. Both R\D\ and C\S\ must be logic (See Datasheet)", 7 DGND (power) "Digital Ground. Ground reference for digital circuitry.", 8 ~{EOC} (out) "Logic Output. The end-of-conversion signal indicates when a conversion has finished. The signal can be used to interrupt a microcontroller when a conversion has finished or latch data into a gate array (see the Parallel (See Datasheet)", 9 ~{PD} (in) "Logic Input. The power-down pin is present on the AD7822 and AD7825 only. Bringing the P\D\ pin low places the AD7822 and AD7825 in power-down mode. The ADCs power up when P\D\ is brought logic high again.", 10 NC "No connected.", 11 VIN1 (in) "Analog Input Channels. The AD7822 has a single input channel; the AD7825 and AD7829 have four and eight analog input channels, respectively. The inputs have an input span of 2.5 V and 2 V depending on the supply voltage (See Datasheet)", 12 VMID (in) "The VMID pin, if connected, is used to center the analog input span anywhere in the range of AGND to VDD (see the Analog Input section).", 13 VREF IN/OUT (io) "Analog Input and Output. An external reference can be connected to the AD7822/AD7825/AD7829 at this pin. The on-chip reference is also available at this pin. When using the internal reference, this pin can be left (See Datasheet)", 14 VDD (power) "Positive Supply Voltage, 3 V +/- 10% and 5 V +/- 10%.", 15 AGND (power) "Analog Ground. Ground reference for track-and-hold, comparators, reference circuit, and multiplexer.", 16 DB7 (hiz) "Data Output Lines. They are normally held in a high impedance state. Data is driven onto the data bus when both R\D\ and C\S\ go active low.", 17 DB6 (hiz) "Data Output Lines. They are normally held in a high impedance state. Data is driven onto the data bus when both R\D\ and C\S\ go active low.", 18 DB5 (hiz) "Data Output Lines. They are normally held in a high impedance state. Data is driven onto the data bus when both R\D\ and C\S\ go active low.", 19 DB4 (hiz) "Data Output Lines. They are normally held in a high impedance state. Data is driven onto the data bus when both R\D\ and C\S\ go active low.", 20 DB3 (hiz) "Data Output Lines. They are normally held in a high impedance state. Data is driven onto the data bus when both R\D\ and C\S\ go active low."

## AD7822BRU-REEL
designator U?
Single 8-Bit Sampling Analog-to-Digital Converter with Parallel Interface, 3 V / 5 V, 2MSPS, -40 to +85 degC, RU-20, Reel; Part Number: AD7822; Manufacturer: Analog Devices; Resolution (Bits): 8; Channels: 1; Throughput Rate (SPS): 2M; Interface: Par; DatasheetVersion: Rev.C; PackageVersion: 2000; PackageReference: RU-20; PackageDescription: 20-Lead Thin Shrink Small Outline Package [TSSOP]; RoHS: N; Packing: Reel; Mounting Technology: Surface Mount; Code_JEDEC: MO-153AC; ComponentLink1Description: Manufacturer URL; ComponentLink1URL: http://www.analog.com/en/index.html; ComponentLink2Description: Datasheet; ComponentLink2URL: http://www.analog.com/static/imported-files/data_sheets/AD7822_7825_7829.pdf; ComponentLink3Description: Package Specification; ComponentLink3URL: http://www.analog.com/static/imported-files/packages/364515793657813558433715854054607941441RU20.pdf; ComponentLink4Description: Product URL; ComponentLink4URL: http://www.analog.com/en/analog-to-digital-converters/ad-converters/ad7822/products/product.html
footprint RU-20_N (TSOP, 20-Leads, Body 6.5x4.4mm, Pitch 0.65mm, IPC Medium Density)
footprint RU-20_L (TSOP, 20-Leads, Body 6.5x4.4mm, Pitch 0.65mm, IPC High Density)
footprint RU-20_M (TSOP, 20-Leads, Body 6.5x4.4mm, Pitch 0.65mm, IPC Low Density)
pins: 1 DB2 (hiz) "Data Output Lines. They are normally held in a high impedance state. Data is driven onto the data bus when both R\D\ and C\S\ go active low.", 2 DB1 (hiz) "Data Output Lines. They are normally held in a high impedance state. Data is driven onto the data bus when both R\D\ and C\S\ go active low.", 3 DB0 (hiz) "Data Output Lines. They are normally held in a high impedance state. Data is driven onto the data bus when both R\D\ and C\S\ go active low.", 4 ~{CONVST} (in) "Logic Input Signal. The convert start signal initiates an 8-bit analog-to-digital conversion on the falling edge of this signal. The falling edge of this signal places the track-and-hold in hold mode. The track-and-hold goes (See Datasheet)", 5 ~{CS} (in) "Logic Input Signal. The chip select signal is used to enable the parallel port of the AD7822/AD7825/AD7829. This is necessary if the ADC is sharing a common data bus with another device.", 6 ~{RD} (in) "Logic Input Signal. The read signal is used to take the output buffers out of their high impedance state and drive data onto the data bus. The signal is internally gated with the C\S\ signal. Both R\D\ and C\S\ must be logic (See Datasheet)", 7 DGND (power) "Digital Ground. Ground reference for digital circuitry.", 8 ~{EOC} (out) "Logic Output. The end-of-conversion signal indicates when a conversion has finished. The signal can be used to interrupt a microcontroller when a conversion has finished or latch data into a gate array (see the Parallel (See Datasheet)", 9 ~{PD} (in) "Logic Input. The power-down pin is present on the AD7822 and AD7825 only. Bringing the P\D\ pin low places the AD7822 and AD7825 in power-down mode. The ADCs power up when P\D\ is brought logic high again.", 10 NC "No connected.", 11 VIN1 (in) "Analog Input Channels. The AD7822 has a single input channel; the AD7825 and AD7829 have four and eight analog input channels, respectively. The inputs have an input span of 2.5 V and 2 V depending on the supply voltage (See Datasheet)", 12 VMID (in) "The VMID pin, if connected, is used to center the analog input span anywhere in the range of AGND to VDD (see the Analog Input section).", 13 VREF IN/OUT (io) "Analog Input and Output. An external reference can be connected to the AD7822/AD7825/AD7829 at this pin. The on-chip reference is also available at this pin. When using the internal reference, this pin can be left (See Datasheet)", 14 VDD (power) "Positive Supply Voltage, 3 V +/- 10% and 5 V +/- 10%.", 15 AGND (power) "Analog Ground. Ground reference for track-and-hold, comparators, reference circuit, and multiplexer.", 16 DB7 (hiz) "Data Output Lines. They are normally held in a high impedance state. Data is driven onto the data bus when both R\D\ and C\S\ go active low.", 17 DB6 (hiz) "Data Output Lines. They are normally held in a high impedance state. Data is driven onto the data bus when both R\D\ and C\S\ go active low.", 18 DB5 (hiz) "Data Output Lines. They are normally held in a high impedance state. Data is driven onto the data bus when both R\D\ and C\S\ go active low.", 19 DB4 (hiz) "Data Output Lines. They are normally held in a high impedance state. Data is driven onto the data bus when both R\D\ and C\S\ go active low.", 20 DB3 (hiz) "Data Output Lines. They are normally held in a high impedance state. Data is driven onto the data bus when both R\D\ and C\S\ go active low."

## AD7822BRU-REEL7
designator U?
Single 8-Bit Sampling Analog-to-Digital Converter with Parallel Interface, 3 V / 5 V, 2MSPS, -40 to +85 degC, RU-20, Reel; Part Number: AD7822; Manufacturer: Analog Devices; Resolution (Bits): 8; Channels: 1; Throughput Rate (SPS): 2M; Interface: Par; DatasheetVersion: Rev.C; PackageVersion: 2000; PackageReference: RU-20; PackageDescription: 20-Lead Thin Shrink Small Outline Package [TSSOP]; RoHS: N; Packing: Reel; Mounting Technology: Surface Mount; Code_JEDEC: MO-153AC; ComponentLink1Description: Manufacturer URL; ComponentLink1URL: http://www.analog.com/en/index.html; ComponentLink2Description: Datasheet; ComponentLink2URL: http://www.analog.com/static/imported-files/data_sheets/AD7822_7825_7829.pdf; ComponentLink3Description: Package Specification; ComponentLink3URL: http://www.analog.com/static/imported-files/packages/364515793657813558433715854054607941441RU20.pdf; ComponentLink4Description: Product URL; ComponentLink4URL: http://www.analog.com/en/analog-to-digital-converters/ad-converters/ad7822/products/product.html
footprint RU-20_N (TSOP, 20-Leads, Body 6.5x4.4mm, Pitch 0.65mm, IPC Medium Density)
footprint RU-20_L (TSOP, 20-Leads, Body 6.5x4.4mm, Pitch 0.65mm, IPC High Density)
footprint RU-20_M (TSOP, 20-Leads, Body 6.5x4.4mm, Pitch 0.65mm, IPC Low Density)
pins: 1 DB2 (hiz) "Data Output Lines. They are normally held in a high impedance state. Data is driven onto the data bus when both R\D\ and C\S\ go active low.", 2 DB1 (hiz) "Data Output Lines. They are normally held in a high impedance state. Data is driven onto the data bus when both R\D\ and C\S\ go active low.", 3 DB0 (hiz) "Data Output Lines. They are normally held in a high impedance state. Data is driven onto the data bus when both R\D\ and C\S\ go active low.", 4 ~{CONVST} (in) "Logic Input Signal. The convert start signal initiates an 8-bit analog-to-digital conversion on the falling edge of this signal. The falling edge of this signal places the track-and-hold in hold mode. The track-and-hold goes (See Datasheet)", 5 ~{CS} (in) "Logic Input Signal. The chip select signal is used to enable the parallel port of the AD7822/AD7825/AD7829. This is necessary if the ADC is sharing a common data bus with another device.", 6 ~{RD} (in) "Logic Input Signal. The read signal is used to take the output buffers out of their high impedance state and drive data onto the data bus. The signal is internally gated with the C\S\ signal. Both R\D\ and C\S\ must be logic (See Datasheet)", 7 DGND (power) "Digital Ground. Ground reference for digital circuitry.", 8 ~{EOC} (out) "Logic Output. The end-of-conversion signal indicates when a conversion has finished. The signal can be used to interrupt a microcontroller when a conversion has finished or latch data into a gate array (see the Parallel (See Datasheet)", 9 ~{PD} (in) "Logic Input. The power-down pin is present on the AD7822 and AD7825 only. Bringing the P\D\ pin low places the AD7822 and AD7825 in power-down mode. The ADCs power up when P\D\ is brought logic high again.", 10 NC "No connected.", 11 VIN1 (in) "Analog Input Channels. The AD7822 has a single input channel; the AD7825 and AD7829 have four and eight analog input channels, respectively. The inputs have an input span of 2.5 V and 2 V depending on the supply voltage (See Datasheet)", 12 VMID (in) "The VMID pin, if connected, is used to center the analog input span anywhere in the range of AGND to VDD (see the Analog Input section).", 13 VREF IN/OUT (io) "Analog Input and Output. An external reference can be connected to the AD7822/AD7825/AD7829 at this pin. The on-chip reference is also available at this pin. When using the internal reference, this pin can be left (See Datasheet)", 14 VDD (power) "Positive Supply Voltage, 3 V +/- 10% and 5 V +/- 10%.", 15 AGND (power) "Analog Ground. Ground reference for track-and-hold, comparators, reference circuit, and multiplexer.", 16 DB7 (hiz) "Data Output Lines. They are normally held in a high impedance state. Data is driven onto the data bus when both R\D\ and C\S\ go active low.", 17 DB6 (hiz) "Data Output Lines. They are normally held in a high impedance state. Data is driven onto the data bus when both R\D\ and C\S\ go active low.", 18 DB5 (hiz) "Data Output Lines. They are normally held in a high impedance state. Data is driven onto the data bus when both R\D\ and C\S\ go active low.", 19 DB4 (hiz) "Data Output Lines. They are normally held in a high impedance state. Data is driven onto the data bus when both R\D\ and C\S\ go active low.", 20 DB3 (hiz) "Data Output Lines. They are normally held in a high impedance state. Data is driven onto the data bus when both R\D\ and C\S\ go active low."